# Altium footprint library my_lib.PcbLib: 68 footprints (part 2 of 5)
Each footprint in its own frame and in the unit in brackets; x right, y up, seen from the top. Pads: shape width x height; smd on the part's side, far side on the other; paste and mask are expansions set on the pad; w line width, h text height; cw(c..) or ccw(c..) is an arc to the next point about the centre after c.
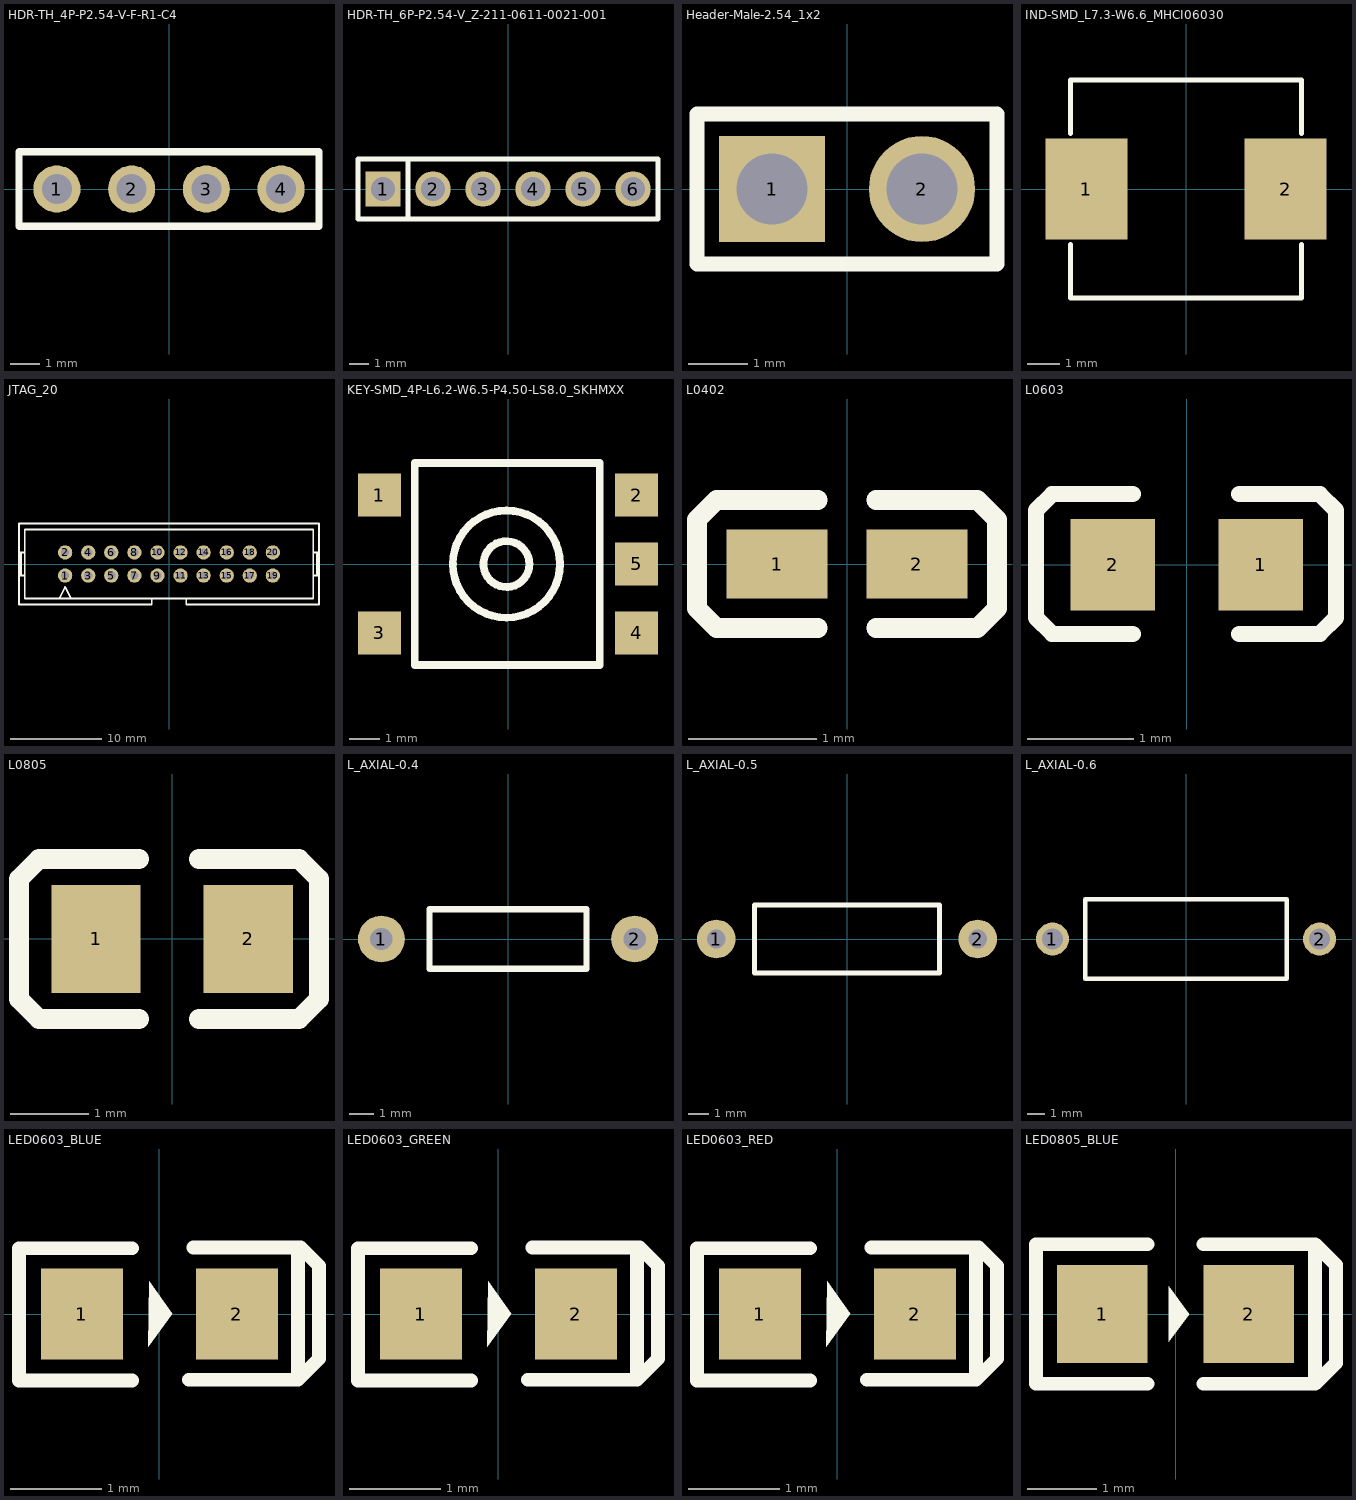
[diagram p1: the footprints below, top view; thin cyan lines are the x and y axes]

## HDR-TH_4P-P2.54-V-F-R1-C4 [mm]
pads (4):
  round 1.6 hole 1.02: 1(-3.81,0) 2(-1.27,0) 3(1.27,0) 4(3.81,0)
Top Overlay:
  lines w0.254: -5.1,-1.27 5.1,-1.27 5.1,1.27 -5.1,1.27 -5.1,-1.27

## HDR-TH_6P-P2.54-V_Z-211-0611-0021-001 [mm]
pads (6):
  rect 1.8x1.8 hole 1.2: 1(-6.35,0)
  round 1.8 hole 1.2: 2(-3.81,0) 3(-1.27,0) 4(1.27,0) 5(3.81,0) 6(6.35,0)
Top Overlay:
  lines w0.254: -5.08,-1.524 -5.08,1.524 ; -7.62,-1.524 -7.62,1.524 7.62,1.524 7.62,-1.524 -7.62,-1.524

## Header-Male-2.54_1x2 [mm]
pads (2):
  rect 1.8x1.8 hole 1.2: 1(-1.27,0)
  round 1.8 hole 1.2: 2(1.27,0)
Top Overlay:
  lines w0.254: -2.54,-1.27 -2.54,1.27 2.54,1.27 2.54,-1.27 -2.54,-1.27

## IND-SMD_L7.3-W6.6_MHCI06030 [mm]
pads (2):
  rect 2.524x3.12 smd: 1(-3.078,0) 2(3.078,0)
Top Overlay:
  lines w0.152: -3.576,-1.712 -3.576,-3.376 3.576,-3.376 3.576,-1.712 ; -3.576,1.712 -3.576,3.376 3.576,3.376 3.576,1.712

## JTAG_20 [mil]
pads (20):
  round 62 hole 35: 1(-450,-50) 2(-450,50) 3(-350,-50) 4(-350,50) 5(-250,-50) 6(-250,50) 7(-150,-50) 8(-150,50) 9(-50,-50) 10(-50,50) 11(50,-50) 12(50,50) 13(150,-50) 14(150,50) 15(250,-50) 16(250,50) 17(350,-50) 18(350,50) 19(450,-50) 20(450,50)
Top Overlay:
  lines w8: -650,-50 -625,-50 ; -650,50 -625,50 ; -641.67,-50 -641.67,50 ; -475,-150 -450,-100 -425,-150 ; -339.57,-175 -75,-175 -75,-150 ; -325,-175 -650,-175 -650,175 650,175 650,-175 325,-175 75,-175 75,-150 ; 625,-50 650,-50 ; 625,50 650,50 ; 641.67,-50 641.67,50 ; -75,-150 75,-150 ; -75,-150 -625,-150 -625,150 625,150 625,-150 75,-150

## KEY-SMD_4P-L6.2-W6.5-P4.50-LS8.0_SKHMXX [mm]
pads (5):
  rect 1.4x1.4 smd: 1(-4.2,2.25) 2(4.2,2.25) 3(-4.2,-2.25) 4(4.2,-2.25) 5(4.2,0)
Top Overlay:
  circle w0.254: c-0.051,-0.003 r1.75
  circle w0.254: c-0.051,-0.003 r0.749
  lines w0.254: -3.048,3.3 -3.048,-3.3 3,-3.3 3,3.3 -3,3.3

## L0402 [mm]
pads (2):
  rect 0.79x0.54 smd: 1(-0.545,0) 2(0.545,0)
Top Overlay:
  lines w0.152: -0.226,-0.499 -1.016,-0.499 -1.169,-0.346 -1.169,0.346 -1.016,0.499 -0.226,0.499 ; 0.226,-0.499 1.016,-0.499 1.169,-0.346 1.169,0.346 1.016,0.499 0.226,0.499
Top Paste:
  region: 0.135,-0.086 0.135,0.086 0.404,0.27 0.9,0.27 0.94,0.23 0.94,-0.23 0.9,-0.27 0.404,-0.27
  region: -0.135,-0.086 -0.135,0.086 -0.404,0.27 -0.9,0.27 -0.94,0.23 -0.94,-0.23 -0.9,-0.27 -0.404,-0.27

## L0603 [mm]
pads (2):
  rect 0.8x0.864 smd: 1(0.7,0) 2(-0.7,0)
Top Overlay:
  lines w0.152: -0.51,-0.651 -1.272,-0.651 -1.424,-0.499 -1.424,0.517 -1.272,0.67 -0.51,0.67 ; 0.496,-0.651 1.258,-0.651 1.411,-0.499 1.411,0.517 1.258,0.67 0.496,0.67
Top Paste:
  region: -0.252,0.143 -0.252,-0.134 -0.526,-0.427 -1.029,-0.427 -1.093,-0.363 -1.093,0.373 -1.029,0.437 -0.526,0.437
  region: 0.264,0.154 0.264,-0.122 0.538,-0.416 1.042,-0.416 1.106,-0.352 1.106,0.384 1.042,0.448 0.538,0.448

## L0805 [mm]
pads (2):
  rect 1.133x1.377 smd: 1(-0.966,0) 2(0.966,0)
Top Overlay:
  lines w0.254: -0.421,-1.016 -1.691,-1.016 -1.945,-0.762 -1.945,-0.635 -1.945,0.762 -1.691,1.016 -1.564,1.016 -0.421,1.016 ; 0.341,-1.016 1.484,-1.016 1.611,-1.016 1.865,-0.762 1.865,0.635 1.865,0.762 1.611,1.016 0.341,1.016
Top Paste:
  region: -0.36,-0.22 -0.36,0.22 -0.745,0.688 -1.433,0.688 -1.533,0.588 -1.533,-0.589 -1.433,-0.689 -0.745,-0.689
  region: 0.36,-0.22 0.36,0.22 0.745,0.688 1.433,0.688 1.533,0.588 1.533,-0.589 1.433,-0.689 0.745,-0.689

## L_AXIAL-0.4 [mil]
pads (2):
  round 74 hole 35.4: 1(-200,0) 2(200,0)
Top Overlay:
  lines w10: -124,-47 -124,47 124,47 124,-47 -124,-47

## L_AXIAL-0.5 [mil]
pads (2):
  round 74 hole 35.4: 1(-250,0) 2(250,0)
Top Overlay:
  lines w10: -177,-65 177,-65 177,65 -177,65 -177,-65

## L_AXIAL-0.6 [mil]
pads (2):
  round 74 hole 47.2: 1(-300,0) 2(300,0)
Top Overlay:
  lines w10: -226,-89 226,-89 226,89 -226,89 -226,-89

## LED0603_BLUE [mm]
pads (2):
  rect 0.9x1 smd: 1(-0.85,0) 2(0.85,0)
Top Overlay:
  region: -0.11,0.36 -0.12,-0.36 0.14,0
  lines w0.15: -0.3,-0.73 -1.54,-0.73 -1.54,0.72 -0.3,0.72 ; 0.32,-0.72 1.52,-0.72 ; 0.37,0.73 1.52,0.73 ; 1.52,-0.72 1.72,-0.52 1.75,-0.49 1.75,0.53 1.55,0.73 1.52,0.73 ; 1.52,-0.72 1.52,0.73

## LED0603_GREEN [mm]
pads (2):
  rect 0.9x1 smd: 1(-0.85,0) 2(0.85,0)
Top Overlay:
  region: -0.11,0.36 -0.12,-0.36 0.14,0
  lines w0.15: -0.3,-0.73 -1.54,-0.73 -1.54,0.72 -0.3,0.72 ; 0.32,-0.72 1.52,-0.72 ; 0.37,0.73 1.52,0.73 ; 1.52,-0.72 1.72,-0.52 1.75,-0.49 1.75,0.53 1.55,0.73 1.52,0.73 ; 1.52,-0.72 1.52,0.73

## LED0603_RED [mm]
pads (2):
  rect 0.9x1 smd: 1(-0.85,0) 2(0.85,0)
Top Overlay:
  region: -0.11,0.36 -0.12,-0.36 0.14,0
  lines w0.15: -0.3,-0.73 -1.54,-0.73 -1.54,0.72 -0.3,0.72 ; 0.32,-0.72 1.52,-0.72 ; 0.37,0.73 1.52,0.73 ; 1.52,-0.72 1.72,-0.52 1.75,-0.49 1.75,0.53 1.55,0.73 1.52,0.73 ; 1.52,-0.72 1.52,0.73

## LED0805_BLUE [mm]
pads (2):
  rect 1.3x1.4 smd: 1(-1.05,0) 2(1.05,0)
Top Overlay:
  region: -0.1,0.4 -0.1,-0.4 0.2,0
  lines w0.2: -0.4,-1 -2,-1 -2,1 -0.4,1 ; 0.4,-1 2,-1 ; 0.4,1 2,1 ; 2,-1 2.3,-0.7 2.3,0.7 2,1 ; 2,-1 2,1